# EAGLE library part CPLD_ATF2500C-20PU (library 07-Retrocomputing)
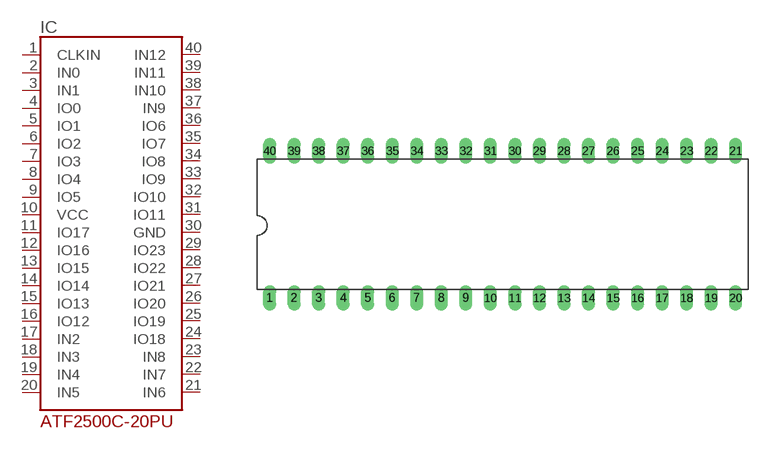
[diagram p3: symbol with the pads of DIL40; footprint DIL40]

Designator prefix IC

## CPLD_ATF2500C-20PU  [DIL40]
1  CLKIN
2  IN0
3  IN1
4  IO0
5  IO1
6  IO2
7  IO3
8  IO4
9  IO5
10  VCC
11  IO17
12  IO16
13  IO15
14  IO14
15  IO13
16  IO12
17  IN2
18  IN3
19  IN4
20  IN5
21  IN6
22  IN7
23  IN8
24  IO18
25  IO19
26  IO20
27  IO21
28  IO22
29  IO23
30  GND
31  IO11
32  IO10
33  IO9
34  IO8
35  IO7
36  IO6
37  IN9
38  IN10
39  IN11
40  IN12

## Footprint DIL40 (pad centres in mm)
Dual In Line Package
drill 0.813 long: 1 -24.13,-7.62; 2 -21.59,-7.62; 3 -19.05,-7.62; 4 -16.51,-7.62; 5 -13.97,-7.62; 6 -11.43,-7.62; 7 -8.89,-7.62; 8 -6.35,-7.62; 9 -3.81,-7.62; 10 -1.27,-7.62; 11 1.27,-7.62; 12 3.81,-7.62; 13 6.35,-7.62; 14 8.89,-7.62; 15 11.43,-7.62; 16 13.97,-7.62; 17 16.51,-7.62; 18 19.05,-7.62; 19 21.59,-7.62; 20 24.13,-7.62; 21 24.13,7.62; 22 21.59,7.62; 23 19.05,7.62; 24 16.51,7.62; 25 13.97,7.62; 26 11.43,7.62; 27 8.89,7.62; 28 6.35,7.62; 29 3.81,7.62; 30 1.27,7.62; 31 -1.27,7.62; 32 -3.81,7.62; 33 -6.35,7.62; 34 -8.89,7.62; 35 -11.43,7.62; 36 -13.97,7.62; 37 -16.51,7.62; 38 -19.05,7.62; 39 -21.59,7.62; 40 -24.13,7.62